# EAGLE library part HEADER_01X27 (library MF_Connectors)
Library: MF_Connectors Description: Header Connector with 27 Positions and 01 Rows. Use the LABEL Attribute to label the pin on the schematic and PCB. You can remove the attributes on the PCB by using the SMASH function on the part and then deleting the text.
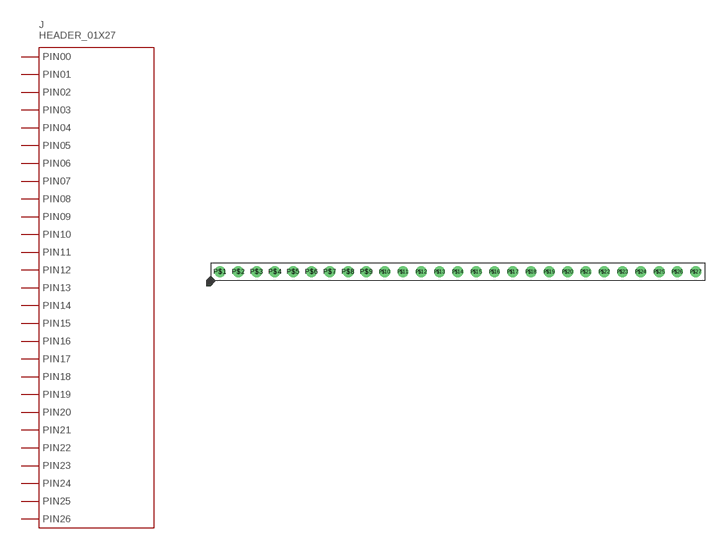
[diagram p23: symbol with the pads of PTH_2.54MM_01X27; footprint PTH_2.54MM_01X27]

Designator prefix J

## HEADER_01X27_PTH_2.54MM  [PTH_2.54MM_01X27]
P$1  PIN0
P$2  PIN1
P$3  PIN2
P$4  PIN3
P$5  PIN4
P$6  PIN5
P$7  PIN6
P$8  PIN7
P$9  PIN8
P$10  PIN9
P$11  PIN10
P$12  PIN11
P$13  PIN12
P$14  PIN13
P$15  PIN14
P$16  PIN15
P$17  PIN16
P$18  PIN17
P$19  PIN18
P$20  PIN19
P$21  PIN20
P$22  PIN21
P$23  PIN22
P$24  PIN23
P$25  PIN24
P$26  PIN25
P$27  PIN26

## Footprint PTH_2.54MM_01X27 (pad centres in mm)
Description: Package for 2.54MM Pitch Header 27 Position. Based on 4UCON 00834.
drill 1: P$1 -33.02,0; P$2 -30.48,0; P$3 -27.94,0; P$4 -25.4,0; P$5 -22.86,0; P$6 -20.32,0; P$7 -17.78,0; P$8 -15.24,0; P$9 -12.7,0; P$10 -10.16,0; P$11 -7.62,0; P$12 -5.08,0; P$13 -2.54,0; P$14 0,0; P$15 2.54,0; P$16 5.08,0; P$17 7.62,0; P$18 10.16,0; P$19 12.7,0; P$20 15.24,0; P$21 17.78,0; P$22 20.32,0; P$23 22.86,0; P$24 25.4,0; P$25 27.94,0; P$26 30.48,0; P$27 33.02,0